# Altium footprint library EVM3ESX50B14.PcbLib: 1 footprints
Each footprint in its own frame and in the unit in brackets; x right, y up, seen from the top. Pads: shape width x height; smd on the part's side, far side on the other; paste and mask are expansions set on the pad; w line width, h text height; cw(c..) or ccw(c..) is an arc to the next point about the centre after c.
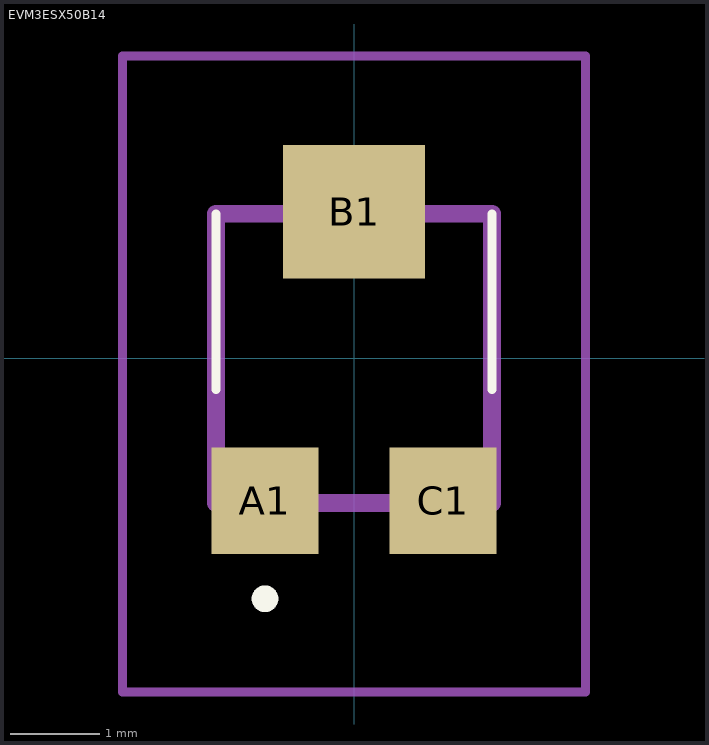
[diagram p0: the footprint, top view; thin cyan lines are the x and y axes]

## EVM3ESX50B14 [mm]
pads (3):
  rect 1.2x1.2 smd: A1(-1,-1.6) C1(1,-1.6)
  rect 1.6x1.5 smd: B1(0,1.65)
Top Overlay:
  lines w0.1: -1.55,-0.35 -1.55,1.625 ; -1.55,-0.35 -1.55,-0.35 ; -1.55,-0.35 -1.55,1.625 ; -1.55,1.625 -1.55,1.625 ; 1.55,-0.35 1.55,1.625 ; 1.55,-0.35 1.55,-0.35 ; 1.55,-0.35 1.55,1.625 ; 1.55,1.625 1.55,1.625
  lines w0.2: -1,-2.75 cw(c-1,-2.7) -1,-2.65 ; -1,-2.75 -1,-2.75 ; -1,-2.75 ccw(c-1,-2.7) -1,-2.65 ; -1,-2.75 cw(c-1,-2.7) -1,-2.65 ; -1,-2.65 -1,-2.65 ; -1,-2.65 -1,-2.65
Mechanical 15:
  lines w0.2: -1.55,-1.625 1.55,-1.625 1.55,1.625 -1.55,1.625 -1.55,-1.625
Mechanical 20:
  lines w0.1: -2.6,-3.75 2.6,-3.75 2.6,3.4 -2.6,3.4 -2.6,-3.75